# Altium schematic symbol library Watertron_BFC_100u.Schlib: 1 symbol
Pins are listed as number, name and electrical type; pins without a type are passive.

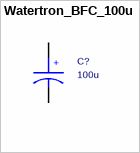
[diagram p0: symbol Watertron_BFC_100u]

## Watertron_BFC_100u
designator C?, comment 100u
pins: 1, 2
text: +